# EAGLE library part 3220-40-0300 (library con-cnc)
IDC BOX HEADER 0.050 40 POS
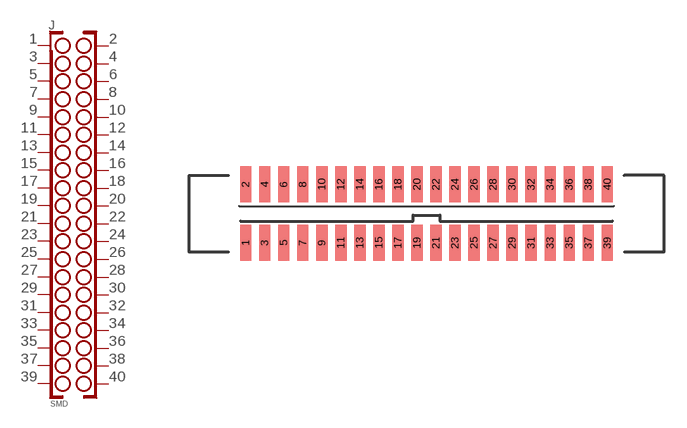
[diagram p0: symbol with the pads of 3220-40-0300; footprint 3220-40-0300]

Designator prefix J

## 3220-40-0300 (DIGIKEY: 1175-1644-ND)  [3220-40-0300]
1  1
2  2
3  3
4  4
5  5
6  6
7  7
8  8
9  9
10  10
11  11
12  12
13  13
14  14
15  15
16  16
17  17
18  18
19  19
20  20
21  21
22  22
23  23
24  24
25  25
26  26
27  27
28  28
29  29
30  30
31  31
32  32
33  33
34  34
35  35
36  36
37  37
38  38
39  39
40  40

## Footprint 3220-40-0300 (pad centres in mm)
smd 0.76 x 2.4: 1 -12.065,-1.95; 2 -12.065,1.95; 3 -10.795,-1.95; 4 -10.795,1.95; 5 -9.525,-1.95; 6 -9.525,1.95; 7 -8.255,-1.95; 8 -8.255,1.95; 9 -6.985,-1.95; 10 -6.985,1.95; 11 -5.715,-1.95; 12 -5.715,1.95; 13 -4.445,-1.95; 14 -4.445,1.95; 15 -3.175,-1.95; 16 -3.175,1.95; 17 -1.905,-1.95; 18 -1.905,1.95; 19 -0.635,-1.95; 20 -0.635,1.95; 21 0.635,-1.95; 22 0.635,1.95; 23 1.905,-1.95; 24 1.905,1.95; 25 3.175,-1.95; 26 3.175,1.95; 27 4.445,-1.95; 28 4.445,1.95; 29 5.715,-1.95; 30 5.715,1.95; 31 6.985,-1.95; 32 6.985,1.95; 33 8.255,-1.95; 34 8.255,1.95; 35 9.525,-1.95; 36 9.525,1.95; 37 10.795,-1.95; 38 10.795,1.95; 39 12.065,-1.95; 40 12.065,1.95